# Altium schematic symbol library SnapEDAsch.SchLib: 1 symbol
Pins are listed as number, name and electrical type; pins without a type are passive.

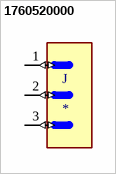
[diagram p0: symbol 1760520000]

## 1760520000
designator J
3 Position Wire to Board Terminal Block Horizontal with Board 0.200 _5.08mm_ Through Hole; MP: 1760520000; MF: Weidmuller; SnapEDA_Link: https://www.snapeda.com/parts/1760520000/Weidmuller/view-part/423520/?ref=snap; Availability: Unavailable; Package: None; Value: *; Price: None
footprint 1760520000
pins: 1 (io), 2 (io), 3 (io)